# Altium footprint library aiskylab-14Connectors-02CardEdgeConnectors.PcbLib: 8 footprints
Each footprint in its own frame and in the unit in brackets; x right, y up, seen from the top. Pads: shape width x height; smd on the part's side, far side on the other; paste and mask are expansions set on the pad; w line width, h text height; cw(c..) or ccw(c..) is an arc to the next point about the centre after c.
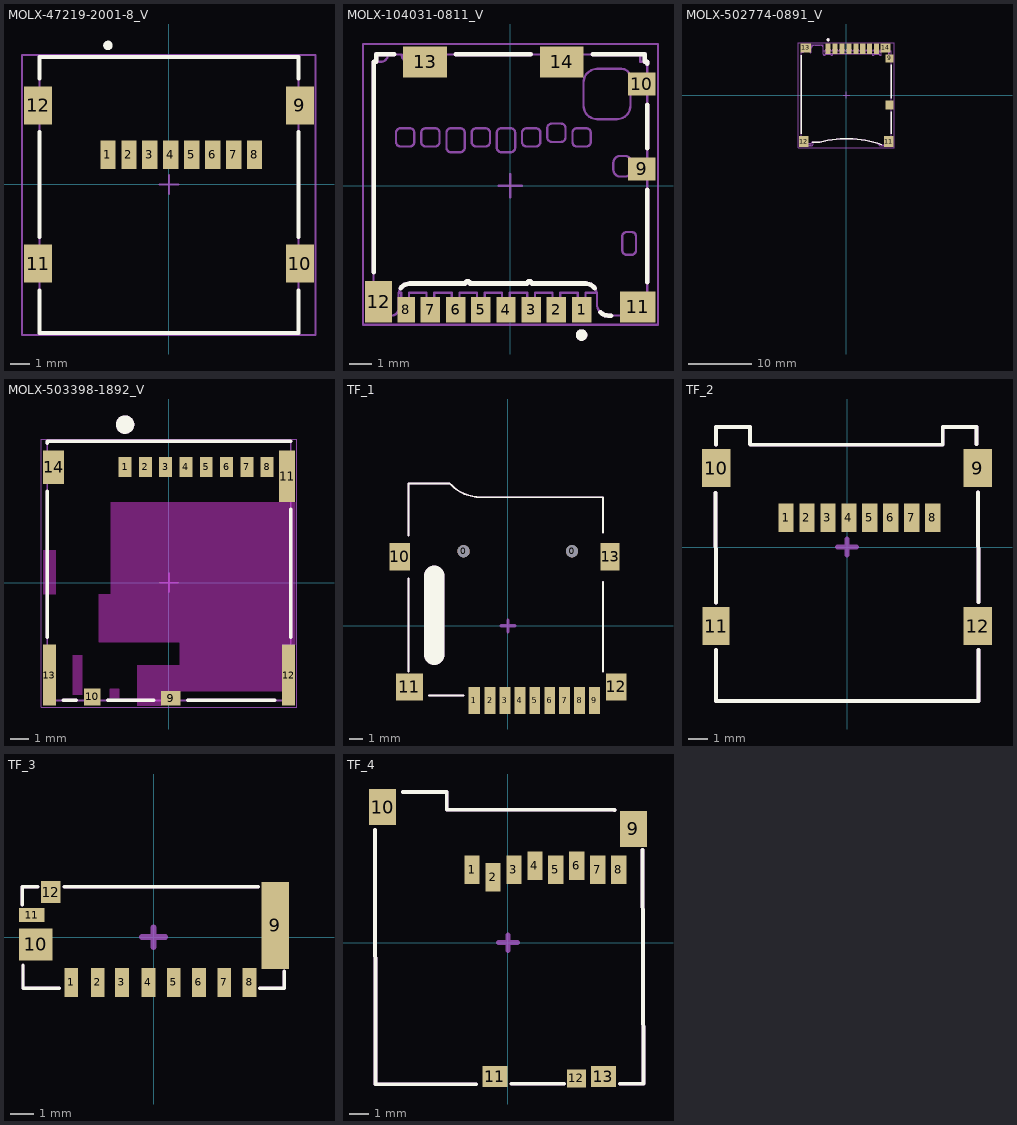
[diagram p0: the footprints below, top view; thin cyan lines are the x and y axes]

## MOLX-47219-2001-8_V [mm] "CONN, 8-Leads, Body 14.5x13.6mm, Pitch 1.1mm"
height 1.9
pads (12):
  rect 0.8x1.5 smd: 1(-3.205,1.55) 2(-2.105,1.55) 3(-1.005,1.55) 4(0.095,1.55) 5(1.195,1.55) 6(2.295,1.55) 7(3.395,1.55) 8(4.495,1.55)
  rect 1.45x2 smd: 9(6.875,4.15) 10(6.875,-4.15) 11(-6.875,-4.15) 12(-6.875,4.15)
Top Overlay:
  circle w0.25: c-3.205,7.3 r0.125
  lines w0.2: -6.8,-5.55 -6.8,-7.8 6.8,-7.8 6.8,-5.55 ; -6.8,-2.75 -6.8,2.75 ; -6.8,5.55 -6.8,6.7 6.8,6.7 6.8,5.55 ; 6.8,-2.75 6.8,2.75
Top Designator:
  text ".Designator" at -7.63,-0.695 h1.52
Top Component Center:
  lines w0.1: -0.5,0 0.5,0 ; 0,-0.5 0,0.5
Top Component Outline:
  lines w0.1: -7.725,-7.9 7.7,-7.9 7.7,6.8 -7.725,6.8 -7.725,-7.9
Top 3D Body:
  lines w0.1: -6.8,-7.8 -6.8,6.7 6.8,6.7 6.8,-7.8 -6.8,-7.8
3D body "472192001.stp": height 1.91, standoff 0.02, extent -7.3,-7.793 7.3,6.707

## MOLX-104031-0811_V [mm] "Micro SD, 8-Leads, Body 11.95x11.4mm, Pitch 1.1mm"
height 1.57
pads (14):
  rect 0.85x1.1 smd: 1(3.113,-5.412) 2(2.013,-5.412) 3(0.913,-5.412) 4(-0.188,-5.412) 5(-1.288,-5.412) 6(-2.387,-5.412) 7(-3.487,-5.412)
  rect 0.75x1.1 smd: 8(-4.537,-5.412)
  rect 1.2x1 smd: 9(5.748,0.738) 10(5.748,4.438)
  rect 1.55x1.35 smd: 11(5.573,-5.287)
  rect 1.17x1.8 smd: 12(-5.747,-5.062)
  rect 1.9x1.35 smd: 13(-3.722,5.413) 14(2.248,5.413)
Top Overlay:
  circle w0.25: c3.113,-6.512 r0.125
  lines w0.2: -5.968,-3.762 -5.968,5.418 -5.848,5.418 -5.848,5.738 -5.343,5.738 -5.072,5.738 ; -4.777,-4.462 cw(c-4.378,-4.762) -4.378,-4.262 -1.962,-4.262 cw(c-1.862,-4.262) -1.862,-4.162 cw(c-1.862,-4.262) -1.762,-4.262 0.738,-4.262 cw(c0.838,-4.262) 0.838,-4.162 cw(c0.838,-4.262) 0.938,-4.262 3.283,-4.262 cw(c3.283,-4.762) 3.692,-4.476 ; -2.372,5.738 0.898,5.738 ; 3.598,5.738 5.678,5.738 5.863,5.738 5.863,5.418 5.983,5.418 5.983,5.338 ; 3.938,-5.525 ccw(c4.283,-5.162) 4.283,-5.662 4.397,-5.662 ; 5.977,-4.212 5.977,-0.162 ; 5.983,1.638 5.983,3.538
Top Designator:
  text ".Designator" at -7.61,-0.783 h1.52
Top Assembly:
  circle w0.25: c3.113,-6.512 r0.125
  lines w0.2: -5.968,-3.762 -5.968,5.418 -5.848,5.418 -5.848,5.738 -5.343,5.738 -5.072,5.738 ; -4.777,-4.462 cw(c-4.378,-4.762) -4.378,-4.262 -1.962,-4.262 cw(c-1.862,-4.262) -1.862,-4.162 cw(c-1.862,-4.262) -1.762,-4.262 0.738,-4.262 cw(c0.838,-4.262) 0.838,-4.162 cw(c0.838,-4.262) 0.938,-4.262 3.283,-4.262 cw(c3.283,-4.762) 3.692,-4.476 ; -2.372,5.738 0.898,5.738 ; 3.598,5.738 5.678,5.738 5.863,5.738 5.863,5.418 5.983,5.418 5.983,5.338 ; 3.938,-5.525 ccw(c4.283,-5.162) 4.283,-5.662 4.397,-5.662 ; 5.977,-4.212 5.977,-0.162 ; 5.983,1.638 5.983,3.538
Top Component Center:
  lines w0.1: -0.5,0 0.5,0 ; 0,-0.5 0,0.5
Top Component Outline:
  lines w0.1: -6.432,-6.062 6.448,-6.062 6.448,6.188 -6.432,6.188 -6.432,-6.062
Top 3D Body:
  drawing of 227 lines, arcs and shapes, not listed
3D body "1040310811.stp": height 1.45, standoff 0, extent -5.967,-5.662 5.983,5.738

## MOLX-502774-0891_V [mm] "SMD, 14-Leads, Body 15x14.3mm, Pitch 1.1mm"
height 1.95
pads (14):
  rect 0.8x1.68 smd: 1(-2.9,7.385) 2(-1.8,7.385) 3(-0.7,7.385) 4(0.4,7.385) 5(1.5,7.385) 6(2.6,7.385) 7(3.7,7.385) 8(4.8,7.385)
  rect 1.29x1.3 smd: 9(6.855,5.825)
  rect 1.29x1.4 smd: 10(6.855,-1.575)
  rect 1.5x1.7 smd: 11(6.75,-7.375) 12(-6.75,-7.375)
  rect 1.7x1.5 smd: 13(-6.45,7.475)
  rect 1.6x1.5 smd: 14(6.21,7.475)
Top Overlay:
  circle w0.25: c-2.9,8.775 r0.125
  lines w0.2: -7.15,-6.125 -7.15,6.325 ; -5.41,-7.5 -4.227,-7.5 cw(c0.1,-22.801) 5.598,-7.881 ; 7.15,-6.125 7.15,-2.675 ; 7.15,-0.475 7.15,4.775
Top Designator:
  text ".Designator" at -7.618,-0.17 h1.52
Top Assembly:
  circle w0.25: c-2.9,8.775 r0.125
  lines w0.2: -7.15,-6.125 -7.15,6.325 ; -5.41,-7.5 -4.227,-7.5 cw(c0.1,-22.801) 5.598,-7.881 ; 7.15,-6.125 7.15,-2.675 ; 7.15,-0.475 7.15,4.775
Top Component Center:
  lines w0.1: -0.5,0 0.5,0 ; 0,-0.5 0,0.5
Top Component Outline:
  lines w0.05: -7.6,-8.325 -7.6,8.325 7.6,8.325 7.6,-8.325 -7.6,-8.325
Top 3D Body:
  drawing of 232 lines, arcs and shapes, not listed
3D body "502774-0891.stp": height 1.78, standoff -0.02, extent -7.15,-8 7.15,8

## MOLX-503398-1892_V [mm] "CONN, 8-Leads, Body 14.05x13.2mm, Pitch 1.1mm"
height 1.4
pads (14):
  rect 0.7x1.1 smd: 1(-2.38,6.27) 2(-1.28,6.27) 3(-0.18,6.27) 4(0.92,6.27) 5(2.02,6.27) 6(3.12,6.27) 7(4.22,6.27) 8(5.32,6.27)
  rect 1.05x0.78 smd: 9(0.095,-6.27)
  rect 0.9x0.93 smd: 10(-4.17,-6.195)
  rect 0.86x2.8 smd: 11(6.4,5.77)
  rect 0.7x3.3 smd: 12(6.48,-5.01) 13(-6.48,-5.01)
  rect 1.14x1.83 smd: 14(-6.26,6.255)
Top Overlay:
  circle w0.5: c-2.38,8.57 r0.25
  lines w0.2: -6.6,-2.96 -6.6,4.94 ; -6.6,7.57 -6.6,7.67 6.6,7.67 ; -5.73,-6.38 -5.02,-6.38 ; -3.32,-6.38 -0.83,-6.38 ; 1.02,-6.38 5.73,-6.38 ; 6.6,-2.96 6.6,3.97
Keep-Out Layer:
  rectangle: -3.22,-6.28 -2.67,-5.73
  rectangle: -5.235,-6.08 -4.685,-3.93
  rectangle: -6.83,-0.63 -6.13,1.77
  region: 6.83,4.37 6.83,-3.36 6.13,-3.36 6.13,-5.88 -0.43,-5.88 -0.43,-6.66 -1.73,-6.66 -1.73,-4.48 0.57,-4.48 0.57,-3.23 -3.82,-3.23 -3.82,-0.63 -3.17,-0.63 -3.17,4.37
Top Designator:
  text ".Designator" at -7.618,0.635 h1.52
Top Assembly:
  circle w0.5: c-2.38,8.57 r0.25
  lines w0.2: -6.6,-2.96 -6.6,4.94 ; -6.6,7.57 -6.6,7.67 6.6,7.67 ; -5.73,-6.38 -5.02,-6.38 ; -3.32,-6.38 -0.83,-6.38 ; 1.02,-6.38 5.73,-6.38 ; 6.6,-2.96 6.6,3.97
Top Component Center:
  lines w0.1: -0.5,0 0.5,0 ; 0,-0.5 0,0.5
Top Component Outline:
  lines w0.05: -6.93,-6.76 6.93,-6.76 6.93,7.77 -6.93,7.77 -6.93,-6.76
Top 3D Body:
  lines w0.1: -6.6,-6.38 6.6,-6.38 6.6,7.67 -6.6,7.67 -6.6,-6.38
3D body "5033981892.stp": height 1.28, standoff 0, extent -6.55,-6.38 6.55,7.67

## TF_1 [mm]
pads (15):
  round 0.9 hole 0.9 unplated: 0(-3.275,5.5) 0(4.725,5.5)
  rect 0.85x2 smd: 1(-2.475,-5.5)
  rect 0.8x2 smd: 2(-1.325,-5.5) 3(-0.225,-5.5) 4(0.875,-5.5) 5(1.975,-5.5) 6(3.075,-5.5) 7(4.175,-5.5) 8(5.275,-5.5) 9(6.375,-5.5)
  rect 1.5x2 smd: 10(-7.975,5.1) 12(7.975,-4.5)
  rect 2x2 smd: 11(-7.275,-4.5)
  rect 1.4x2 smd: 13(7.525,5.1)
Top Overlay:
  lines w0.127: -7.34,6.643 -7.34,9.5 ; -7.34,9.183 -7.34,10.5 -4.291,10.5 -4.189,10.398 ccw(c-2.021,12.566) -2.021,9.5 -0.735,9.5 7.011,9.5 7.011,6.897 ; -7.337,-3.362 -7.337,3.496 ; 7.014,-3.362 7.014,3.242
  lines w0.15: -5.813,-5.14 -3.273,-5.14
  lines w1.5: -5.434,-2.12 -5.434,3.722
Top Assembly:
  lines w0.127: -7.34,6.643 -7.34,9.5 ; -7.34,9.183 -7.34,10.5 -4.291,10.5 -4.189,10.398 ccw(c-2.021,12.566) -2.021,9.5 -0.735,9.5 7.011,9.5 7.011,6.897 ; -7.337,-3.362 -7.337,3.496 ; 7.014,-3.362 7.014,3.242
  lines w0.15: -5.813,-5.14 -3.273,-5.14
  lines w1.5: -5.434,-2.12 -5.434,3.722
Top Component Center:
  lines w0.254: -0.508,0 0.508,0 ; 0,-0.432 0,0.406
3D body "User Library-112J-TXAR-R_C_1-1.STEP": height 1.85, standoff -0.6, extent -8.325,-5.501 7.775,9.501

## TF_2 [mm]
pads (12):
  rect 0.8x1.5 smd: 1(-3.2,1.55) 2(-2.1,1.55) 3(-1,1.55) 4(0.1,1.55) 5(1.2,1.55) 6(2.3,1.55) 7(3.4,1.55) 8(4.5,1.55)
  rect 1.5x2 smd: 9(6.875,4.15) 10(-6.875,4.15) 12(6.875,-4.15)
  rect 1.4x2 smd: 11(-6.875,-4.15)
Top Overlay:
  lines w0.2: -6.9,2.85 -6.875,-2.925 ; -6.875,-5.4 -6.875,-8.075 6.9,-8.075 6.9,-5.4 ; -6.875,5.375 -6.875,6.275 ; -6.875,6.3 -5.1,6.3 -5.1,5.4 ; -5.075,5.375 5.025,5.375 5.025,6.275 ; 5.025,6.3 6.8,6.3 6.8,5.4 ; 6.875,2.875 6.9,-2.9
Top Assembly:
  lines w0.2: -6.9,2.85 -6.875,-2.925 ; -6.875,-5.4 -6.875,-8.075 6.9,-8.075 6.9,-5.4 ; -6.875,5.375 -6.875,6.275 ; -6.875,6.3 -5.1,6.3 -5.1,5.4 ; -5.075,5.375 5.025,5.375 5.025,6.275 ; 5.025,6.3 6.8,6.3 6.8,5.4 ; 6.875,2.875 6.9,-2.9
Top Component Center:
  lines w0.254: -0.508,0.013 0.508,0.013 ; 0,-0.419 0,0.419
3D body "MicroSD_socket_Hinge_type.STEP": height 1.83, standoff 0, extent -7.2,-8.05 7.3,6.25

## TF_3 [mm]
pads (12):
  rect 0.6x1.25 smd: 1(-3.575,-1.965) 2(-2.425,-1.965) 3(-1.375,-1.965) 4(-0.225,-1.965) 5(0.875,-1.965) 6(1.975,-1.965) 7(3.075,-1.965) 8(4.175,-1.965)
  rect 1.2x3.79 smd: 9(5.3,0.515)
  rect 1.45x1.4 smd: 10(-5.125,-0.31)
  rect 1.1x0.6 smd: 11(-5.3,0.965)
  rect 0.85x0.95 smd: 12(-4.475,1.965)
Top Overlay:
  lines w0.15: -5.7,1.415 -5.7,2.19 -5.025,2.19 ; -5.675,-1.21 -5.675,-2.21 -4.1,-2.21 ; -3.875,2.19 4.55,2.19 ; 4.625,-2.21 5.675,-2.21 5.675,-1.485
Top Assembly:
  lines w0.15: -5.7,1.415 -5.7,2.19 -5.025,2.19 ; -5.675,-1.21 -5.675,-2.21 -4.1,-2.21 ; -3.875,2.19 4.55,2.19 ; 4.625,-2.21 5.675,-2.21 5.675,-1.485
Top Component Center:
  lines w0.254: -0.508,0.013 0.508,0.013 ; 0,-0.419 0,0.419
3D body "473090285.stp": height 2.8, standoff -0.05, extent -5.7,-3.31 5.7,2.19

## TF_4 [mm]
pads (13):
  rect 0.8x1.5 smd: 1(-1.887,3.83) 2(-0.787,3.43) 3(0.313,3.83) 4(1.413,4.03) 5(2.513,3.83) 6(3.613,4.03) 7(4.713,3.83) 8(5.813,3.83)
  rect 1.4x1.9 smd: 9(6.587,5.97) 10(-6.587,7.12)
  rect 1.3x1.1 smd: 11(-0.688,-7.03) 13(5.012,-7.03)
  rect 1x0.95 smd: 12(3.588,-7.12)
Top Overlay:
  lines w0.2: -6.988,5.92 -6.963,-7.43 -1.663,-7.43 ; -5.512,7.905 -3.213,7.905 -3.213,6.979 5.587,6.97 ; 0.187,-7.405 2.937,-7.405 ; 5.887,-7.405 7.116,-7.405 7.062,4.87
Top Assembly:
  lines w0.2: -6.988,5.92 -6.963,-7.43 -1.663,-7.43 ; -5.512,7.905 -3.213,7.905 -3.213,6.979 5.587,6.97 ; 0.187,-7.405 2.937,-7.405 ; 5.887,-7.405 7.116,-7.405 7.062,4.87
Top Component Center:
  lines w0.254: -0.508,0.013 0.508,0.013 ; 0,-0.419 0,0.419
3D body "473521001_microSD.stp": height 1.9, standoff 0.02, extent -6.962,-7.48 7.137,7.72